# EAGLE library part BME688 (library BME688)
BME688 gas sensor from Bosch.
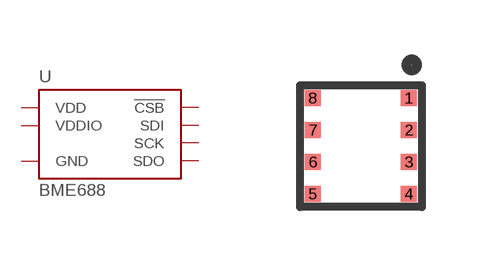
[diagram p0: symbol with the pads of LGA_8PIN; footprint LGA_8PIN]

Designator prefix U

## BME688LGA  [LGA_8PIN]
1  GND  pwr
2  !CSB!  pwr
3  SDI
4  SCK
5  SDO  pwr
6  VDDIO  pwr
7  GND  pwr
8  VDD  pwr

## Footprint LGA_8PIN (pad centres in mm)
LGA package of the BME688 gas sensor from Bosch.
smd 0.4 x 0.4: 1 1.2,1.2; 2 1.2,0.4; 3 1.2,-0.4; 4 1.2,-1.2; 5 -1.2,-1.2; 6 -1.2,-0.4; 7 -1.2,0.4; 8 -1.2,1.2